# EAGLE library part 1X06 (library pimoroni-connectors)
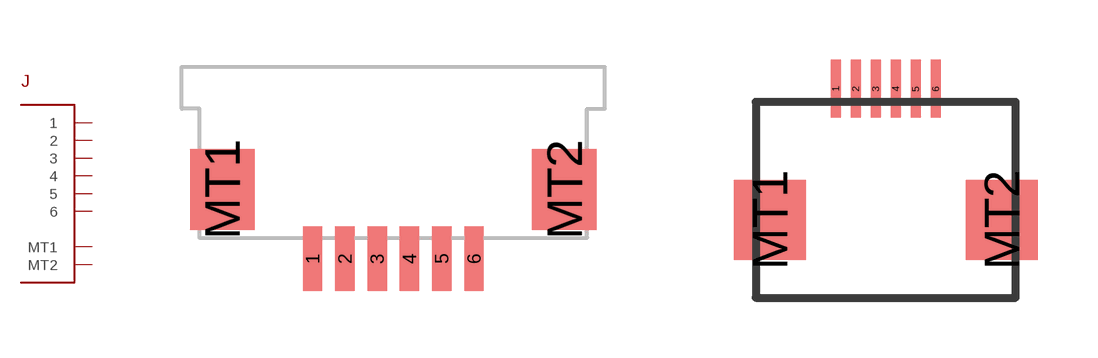
[diagram p3: symbol with the pads of FPC_1.0X06; footprints FPC_1.0X06, FPC_0.5X06_NARROW]

Designator prefix J

## 1X06FPC1.0  [FPC_1.0X06]
1  1
2  2
3  3
4  4
5  5
6  6
MT1  MT1
MT2  MT2

## 1X06FPC_0.5X06_NARROW  [FPC_0.5X06_NARROW]
Pads as for FPC_1.0X06

## 1X06JST_PH  [JST-PH-6]
1  1
2  2
3  3
4  4
5  5
6  6
NC1  MT1
NC2  MT2

## 1X06_SPRING  [1X06_SMT_SPRING]
Pads as for FPC_1.0X06

## 1X06JST_SH  [JST_SH_1.0MM_6P]
Pads as for FPC_1.0X06

## 1X06RJ11  [RJ11]
Pads as for FPC_1.0X06

## Footprint FPC_1.0X06 (pad centres in mm)
smd 0.6 x 2: 1 -2.5,-0.65; 2 -1.5,-0.65; 3 -0.5,-0.65; 4 0.5,-0.65; 5 1.5,-0.65; 6 2.5,-0.65
smd 2 x 2.5: MT1 -5.3,1.5; MT2 5.3,1.5

## Footprint FPC_0.5X06_NARROW (pad centres in mm)
smd 0.25 x 1.45: 1 -1.25,0.325; 2 -0.75,0.325; 3 -0.25,0.325; 4 0.25,0.325; 5 0.75,0.325; 6 1.25,0.325
smd 1.8 x 2: MT1 -2.9,-2.95; MT2 2.9,-2.95

## Footprint JST-PH-6 (pad centres in mm)
2-Pin JST PH Series Right-Angle Connector (+/- for batteries)
smd 1 x 4.4: 1 5,-3.6; 2 3,-3.6; 3 1,-3.6; 4 -1,-3.6; 5 -3,-3.6; 6 -5,-3.6
smd 1.6 x 3.4: NC1 -7.4,1.5; NC2 7.4,1.5

## Footprint 1X06_SMT_SPRING (pad centres in mm)
smd 1.8 x 1.4: 1 -0.5,6.25; 2 -0.5,3.75; 3 -0.5,1.25; 4 -0.5,-1.25; 5 -0.5,-3.75; 6 -0.5,-6.25
smd 2 x 1: MT1 -4.85,5; MT2 -4.85,-5
hole 1.2 at -3.39,6.75
hole 1.2 at -3.39,-6.75

## Footprint JST_SH_1.0MM_6P (pad centres in mm)
smd 0.6 x 1.55: 1 -2.5,4.775; 2 -1.5,4.775; 3 -0.5,4.775; 4 0.5,4.775; 5 1.5,4.775; 6 2.5,4.775
smd 1.4 x 1.8: MT1 -4,0.9; MT2 4,0.9

## Footprint RJ11 (pad centres in mm)
smd 0.75 x 4.5: 1 -3.175,19.1; 2 -1.905,19.1; 3 -0.635,19.1; 4 0.635,19.1; 5 1.905,19.1; 6 3.175,19.1
smd 3.3 x 3: MT1 -4.6,7.85; MT2 4.6,7.85